# Altium footprint library planar.PcbLib: 42 footprints (part 3 of 3)
Each footprint in its own frame and in the unit in brackets; x right, y up, seen from the top. Pads: shape width x height; smd on the part's side, far side on the other; paste and mask are expansions set on the pad; w line width, h text height; cw(c..) or ccw(c..) is an arc to the next point about the centre after c.
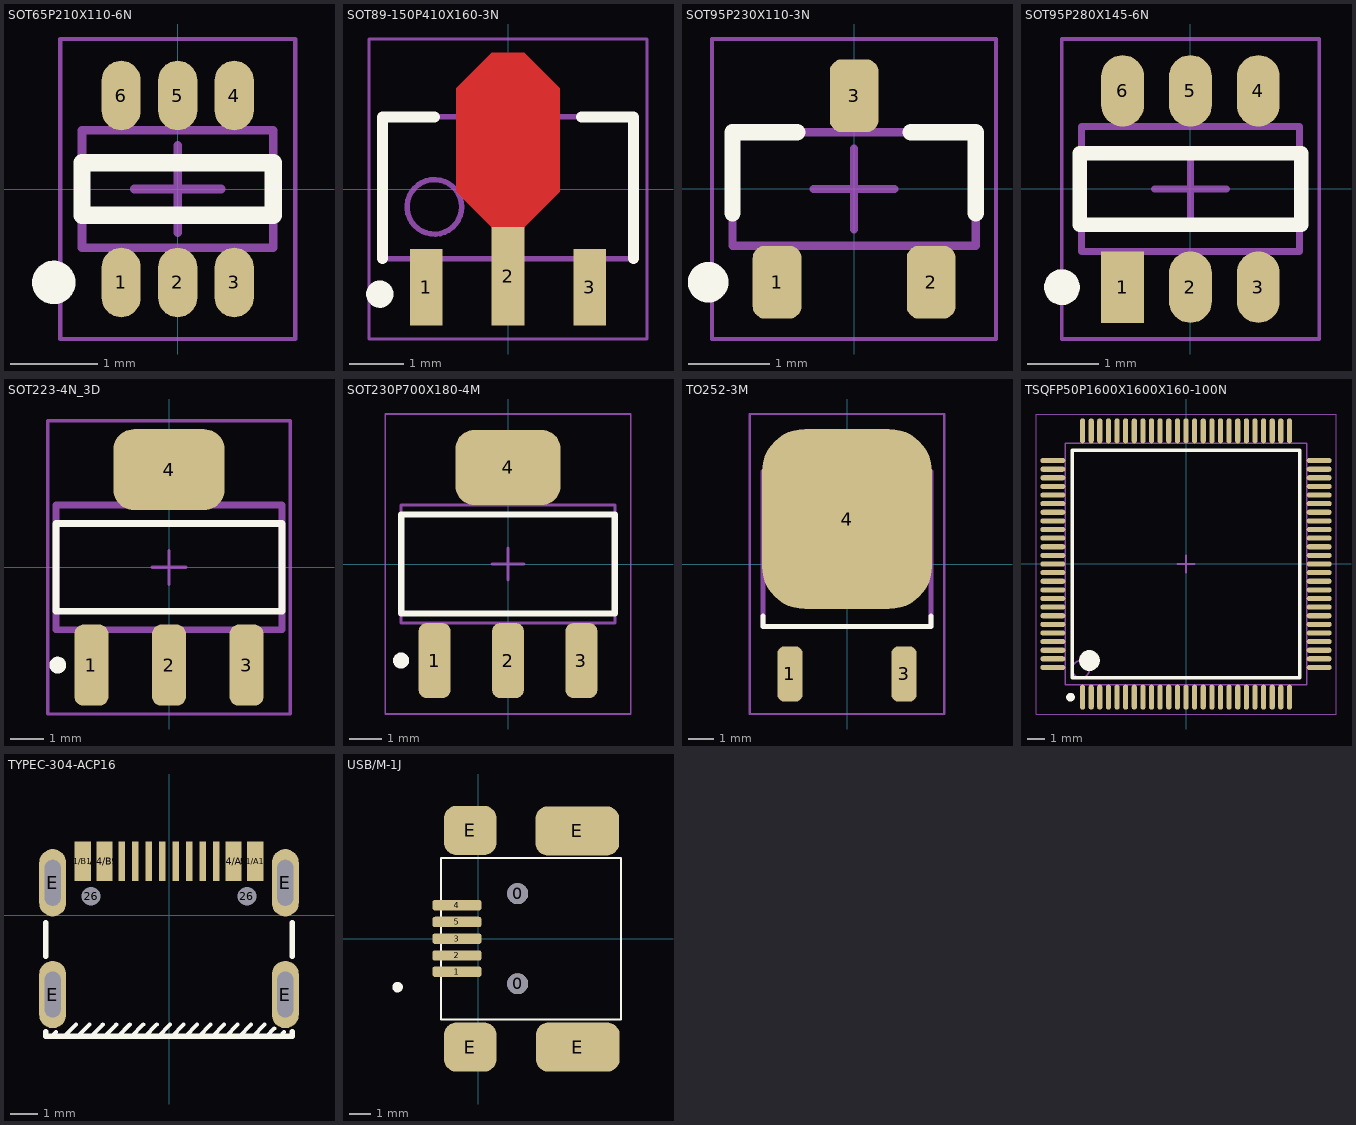
[diagram p2: the footprints below, top view; thin cyan lines are the x and y axes]

## SOT65P210X110-6N [mm] "SOT23, 6-Leads, Body 2,00x2,10mm, Pitch 0,65mm, IPC Medium Density"
height 1.1
pads (6):
  oval 0.45x0.8 smd mask+0.05: 1(-0.65,-1.075) 2(0,-1.075) 3(0.65,-1.075) 4(0.65,1.075) 5(0,1.075) 6(-0.65,1.075)
Top Overlay:
  circle w0.25: c-1.425,-1.075 r0.125
  lines w0.2: -1.1,-0.3 -1.1,0.3 1.1,0.3 1.1,-0.3 -1.1,-0.3
Mechanical 13:
  lines w0.1: -1.1,-0.675 1.1,-0.675 1.1,0.675 -1.1,0.675 -1.1,-0.675
Mechanical 15:
  lines w0.05: -1.35,-1.725 1.35,-1.725 1.35,1.725 -1.35,1.725 -1.35,-1.725
  lines w0.1: -0.5,0 0.5,0 ; 0,-0.5 0,0.5
3D body "SOT65P210X110-6N.step": height 1.1, standoff 0, extent -1.1,-1.15 1.1,1.15

## SOT89-150P410X160-3N [mm] "SOT89, 3-Leads, Body 4,50x2,45mm, Pitch 1,50mm, Lead Span 4,1mm, IPC Medium Density"
height 1.6
pads (3):
  rect 0.6x1.4 smd: 1(-1.5,-1.8) 3(1.5,-1.8)
  rect 0.6x1.8 smd: 2(0,-1.6)
Top Layer:
  region: -0.3,-0.7 -0.95,-0.05 -0.95,1.85 -0.3,2.5 0.3,2.5 0.95,1.85 0.95,-0.05 0.3,-0.7
Top Overlay:
  circle w0.25: c-2.35,-1.928 r0.125
  lines w0.2: -2.3,-1.278 -2.3,1.322 -1.35,1.322 ; 1.35,1.322 2.3,1.322 2.3,-1.278
Mechanical 13:
  circle w0.1: c-1.35,-0.327 r0.5
  lines w0.1: -2.3,-1.278 -2.3,1.322 2.3,1.322 2.3,-1.278 -2.3,-1.278
Mechanical 15:
  lines w0.05: -2.55,-2.75 -2.55,2.75 2.55,2.75 2.55,-2.75 -2.55,-2.75
  lines w0.1: -0.5,0.023 0.5,0.022 ; 0,-0.477 0,0.523
3D body "SOT89-150P410X160-3N.step": height 1.6, standoff 0, extent -2.3,-2.2 2.3,1.85

## SOT95P230X110-3N [mm] "SOT23, 3-Leads, Body 2,90x2,30mm, Pitch 0,95mm, IPC Medium Density"
height 1.1
pads (3):
  rrect50% 0.6x0.9 smd: 1(-0.95,-1.15) 2(0.95,-1.15) 3(0,1.15)
Top Overlay:
  circle w0.25: c-1.8,-1.15 r0.125
  lines w0.2: -1.5,-0.3 -1.5,0.7 -0.7,0.7 ; 0.7,0.7 1.5,0.7 1.5,-0.3
Mechanical 13:
  lines w0.1: -1.5,-0.7 -1.5,0.7 1.5,0.7 1.5,-0.7 -1.5,-0.7
Mechanical 15:
  lines w0.05: -1.75,-1.85 -1.75,1.85 1.75,1.85 1.75,-1.85 -1.75,-1.85
  lines w0.1: -0.5,0 0.5,0 ; 0,-0.5 0,0.5
3D body "SOT95P230X110-3N.step": height 1.1, standoff 0, extent -1.5,-1.25 1.5,1.25

## SOT95P280X145-6N [mm] "SOT23, 6-Leads, Body 2,90x2,80mm, Pitch 0,95mm, IPC Medium Density"
height 1.45
pads (6):
  rect 0.6x1 smd: 1(-0.95,-1.375)
  oval 0.6x1 smd: 2(0,-1.375) 3(0.95,-1.375) 4(0.95,1.375) 5(0,1.375) 6(-0.95,1.375)
Top Overlay:
  circle w0.25: c-1.8,-1.375 r0.125
  lines w0.2: -1.55,-0.5 1.55,-0.5 1.55,0.5 -1.55,0.5 -1.55,-0.5
Mechanical 13:
  lines w0.1: -1.525,-0.875 -1.525,0.875 1.525,0.875 1.525,-0.875 -1.525,-0.875
Mechanical 15:
  lines w0.05: -1.8,-2.1 -1.8,2.1 1.8,2.1 1.8,-2.1 -1.8,-2.1
  lines w0.1: -0.5,0 0.5,0 ; 0,-0.5 0,0.5
3D body "SOT95P280X145-6N.step": height 1.45, standoff 0, extent -1.525,-1.5 1.525,1.5

## SOT223-4N_3D [mm]
pads (4):
  rrect50% 1x2.4 smd: 1(-2.304,-2.905) 2(-0.004,-2.905) 3(2.296,-2.905)
  rrect50% 3.3x2.4 smd: 4(-0.004,2.895)
Top Overlay:
  circle w0.25: c-3.304,-2.905 r0.125
  lines w0.2: -3.354,-1.305 -3.354,1.295 3.346,1.295 3.346,-1.305 -3.354,-1.305
Mechanical 11:
  lines w0.001: -3.354,-1.855 -3.354,1.845 3.346,1.845 3.346,-1.855 -3.354,-1.855
Mechanical 13:
  lines w0.2: -3.354,-1.855 3.346,-1.855 3.346,1.845 -3.354,1.845 -3.354,-1.855
Mechanical 15:
  lines w0.1: -0.504,-0.005 0.496,-0.005 ; -0.004,-0.505 -0.004,0.495 ; -3.604,-4.355 -3.604,4.345 3.596,4.345 3.596,-4.355 -3.604,-4.355
3D body "SW3dPS-SOT-223-1.STEP": height 1.66, standoff 0.01, extent -3.259,-3.576 3.241,3.424

## SOT230P700X180-4M [mm] "SOT223, 4-Leads, Body 6,50x7,00mm (avg), Pitch 2,30mm, IPC Low Density"
height 1.8
pads (4):
  rrect50% 1x2.35 smd: 1(-2.3,-3.025) 2(0,-3.025) 3(2.3,-3.025)
  rrect50% 3.3x2.35 smd: 4(0,3.025)
Top Overlay:
  circle w0.25: c-3.35,-3.025 r0.125
  lines w0.2: -3.35,-1.55 -3.35,1.55 3.35,1.55 3.35,-1.55 -3.35,-1.55
Mechanical 13:
  lines w0.1: -3.35,-1.85 -3.35,1.85 3.35,1.85 3.35,-1.85 -3.35,-1.85
Mechanical 15:
  lines w0.05: -3.85,-4.7 -3.85,4.7 3.85,4.7 3.85,-4.7 -3.85,-4.7
  lines w0.1: -0.5,0 0.5,0 ; 0,-0.5 0,0.5
3D body "SOT230P700X180-4M.step": height 1.8, standoff 0, extent -3.35,-3.5 3.35,3.5

## TO252-3M [mm]
pads (3):
  rrect50% 1x2.2 smd: 1(-2.292,-4.393) 3(2.268,-4.393)
  rrect50% 6.8x7.2 smd paste-5: 4(-0.012,1.807)
Top Overlay:
  lines w0.2: -3.362,-2.081 -3.362,-2.493 3.338,-2.493 3.338,-2.081
Top Paste:
  region: -0.38,3.519 -0.38,5.019 -3.005,5.019 -3.005,3.519
  region: -0.38,1.269 -0.38,2.769 -3.005,2.769 -3.005,1.269
  region: -0.38,-0.981 -0.38,0.519 -3.005,0.519 -3.005,-0.981
  region: 2.995,3.519 2.995,5.019 0.37,5.019 0.37,3.519
  region: 2.995,1.269 2.995,2.769 0.37,2.769 0.37,1.269
  region: 2.995,-0.981 2.995,0.519 0.37,0.519 0.37,-0.981
Mechanical 11:
  lines w0.001: -3.362,-2.493 3.338,-2.493 3.338,3.707 -3.362,3.707 -3.362,-2.493
Mechanical 13:
  lines w0.2: -3.362,-2.493 3.338,-2.493 3.338,3.707 -3.362,3.707 -3.362,-2.493
Mechanical 15:
  lines w0.1: -0.512,0.007 0.488,0.007 ; -0.012,-0.493 -0.012,0.507 ; -3.912,-5.993 3.888,-5.993 3.888,6.007 -3.912,6.007 -3.912,-5.993
3D body "SW3dPS-DPAK-1.STEP": height 2.39, standoff -0.02, extent -3.275,-4.992 3.265,4.946

## TSQFP50P1600X1600X160-100N [mm] "TSQFP, 100-Leads, Body 14.00x14.00mm, Pitch 0.50mm, IPC Medium Density"
height 1.6
pads (100):
  oval 0.3x1.45 smd: 1(-6,-7.725) 2(-5.5,-7.725) 3(-5,-7.725) 4(-4.5,-7.725) 5(-4,-7.725) 6(-3.5,-7.725) 7(-3,-7.725) 8(-2.5,-7.725) 9(-2,-7.725) 10(-1.5,-7.725) 11(-1,-7.725) 12(-0.5,-7.725) 13(0,-7.725) 14(0.5,-7.725) 15(1,-7.725) 16(1.5,-7.725) 17(2,-7.725) 18(2.5,-7.725) 19(3,-7.725) 20(3.5,-7.725) 21(4,-7.725) 22(4.5,-7.725) 23(5,-7.725) 24(5.5,-7.725) 25(6,-7.725) 51(6,7.725) 52(5.5,7.725) 53(5,7.725) 54(4.5,7.725) 55(4,7.725) 56(3.5,7.725) 57(3,7.725) 58(2.5,7.725) 59(2,7.725) 60(1.5,7.725) 61(1,7.725) 62(0.5,7.725) 63(0,7.725) 64(-0.5,7.725) 65(-1,7.725) 66(-1.5,7.725) 67(-2,7.725) 68(-2.5,7.725) 69(-3,7.725) 70(-3.5,7.725) 71(-4,7.725) 72(-4.5,7.725) 73(-5,7.725) 74(-5.5,7.725) 75(-6,7.725)
  oval 1.45x0.3 smd: 26(7.725,-6) 27(7.725,-5.5) 28(7.725,-5) 29(7.725,-4.5) 30(7.725,-4) 31(7.725,-3.5) 32(7.725,-3) 33(7.725,-2.5) 34(7.725,-2) 35(7.725,-1.5) 36(7.725,-1) 37(7.725,-0.5) 38(7.725,0) 39(7.725,0.5) 40(7.725,1) 41(7.725,1.5) 42(7.725,2) 43(7.725,2.5) 44(7.725,3) 45(7.725,3.5) 46(7.725,4) 47(7.725,4.5) 48(7.725,5) 49(7.725,5.5) 50(7.725,6) 76(-7.725,6) 77(-7.725,5.5) 78(-7.725,5) 79(-7.725,4.5) 80(-7.725,4) 81(-7.725,3.5) 82(-7.725,3) 83(-7.725,2.5) 84(-7.725,2) 85(-7.725,1.5) 86(-7.725,1) 87(-7.725,0.5) 88(-7.725,0) 89(-7.725,-0.5) 90(-7.725,-1) 91(-7.725,-1.5) 92(-7.725,-2) 93(-7.725,-2.5) 94(-7.725,-3) 95(-7.725,-3.5) 96(-7.725,-4) 97(-7.725,-4.5) 98(-7.725,-5) 99(-7.725,-5.5) 100(-7.725,-6)
Top Overlay:
  circle w0.6: c-5.6,-5.6 r0.3
  circle w0.25: c-6.7,-7.725 r0.125
  lines w0.2: -6.6,-6.6 -6.6,6.6 6.6,6.6 6.6,-6.6 -6.6,-6.6
Mechanical 13:
  circle w0.1: c-6.1,-6.1 r0.5
  lines w0.1: -7,-7 -7,7 7,7 7,-7 -7,-7
Mechanical 15:
  lines w0.05: -8.7,-8.7 -8.7,8.7 8.7,8.7 8.7,-8.7 -8.7,-8.7
  lines w0.1: -0.5,0 0.5,0 ; 0,-0.5 0,0.5
3D body "TSQFP50P1600X1600X160-100N.step": height 1.6, standoff 0, extent -8,-8 8,8

## TYPEC-304-ACP16 [mm] "3A 1 Horizontal attachment 16P Female -40~+85 Type-C SMD USB Connectors ROHS"
pads (18):
  round 0.65 hole 0.7 mask+0.05: 26(-2.89,0.7) 26(2.89,0.7)
  rect 0.6x1.45 smd mask+0.05: A1/B12(-3.2,2) A4/B9(-2.4,2) B1/A12(3.2,2) B4/A9(2.4,2)
  rect 0.25x1.45 smd mask+0.05: A5(-1.25,2) A6(-0.25,2) A7(0.25,2) A8(1.25,2) B5(1.75,2) B6(0.75,2) B7(-0.75,2) B8(-1.75,2)
  oval 1x2.5 hole 0.6 slot 1.7 at 90 deg mask+0.05: E(-4.32,-2.95) E(-4.32,1.2) E(4.32,-2.95) E(4.32,1.2)
Top Overlay:
  lines w0.15: -4.357,-4.5 -4.203,-4.346 ; -3.899,-4.5 -3.461,-4.063 ; -3.398,-4.5 -2.96,-4.063 ; -2.897,-4.5 -2.459,-4.063 ; -2.396,-4.5 -1.958,-4.063 ; -1.895,-4.5 -1.457,-4.063 ; -1.394,-4.5 -0.956,-4.063 ; -0.893,-4.5 -0.455,-4.063 ; -0.392,-4.5 0.046,-4.063 ; 0.109,-4.5 0.547,-4.063 ; 0.61,-4.5 1.048,-4.063 ; 1.111,-4.5 1.549,-4.063 ; 1.612,-4.5 2.05,-4.063 ; 2.113,-4.5 2.551,-4.063 ; 2.614,-4.5 3.052,-4.063 ; 3.115,-4.5 3.553,-4.063 ; 3.616,-4.5 3.908,-4.208 ; 4.117,-4.5 4.271,-4.346
  lines w0.2: -4.575,-4.325 -4.575,-4.5 4.575,-4.5 4.575,-4.325 ; -4.575,-1.525 -4.575,-0.275 ; 4.575,-1.525 4.575,-0.275
3D body "TYPEC-304-ACP16.SLDPRT": height 3.26, standoff -1.2, extent -4.47,-5.6 4.47,2.106

## USB/M-1J [mm] "Connector; USB Mini-B, Sinking Type, SM; 5 Position; Right Angle"
height 3
pads (11):
  round 1 hole 1: 0(1.875,-2.15) 0(1.875,2.15)
  rrect50% 2.35x0.5 smd: 1(-1.025,-1.575) 2(-1.025,-0.8) 3(-1.025,0) 4(-1.025,1.6) 5(-1.025,0.8)
  rrect50% 2.5x2.35 smd: E(-0.387,-5.175) E(-0.387,5.175)
  rrect50% 4x2.35 smd: E(4.725,5.15) E(4.75,-5.175)
Top Overlay:
  circle w0.25: c-3.859,-2.311 r0.125
  lines w0.1: -1.788,-3.85 -1.788,3.85 6.813,3.85 6.813,-3.85 -1.788,-3.85
3D body "SW3dPS-USB_mini_B.STEP": height 3.95, standoff -1, extent -1.425,-5.325 7.775,5.375